# EAGLE library part POLOLU-2134 (library POLOLU-2134)
Stepper motor controler; IC: DRV8834; 2A; Uin mot: 2.5÷10.8V. Check prices <https://pricing.snapeda.com/parts/POLOLU-2134/Pololu/view-part?ref=eda>
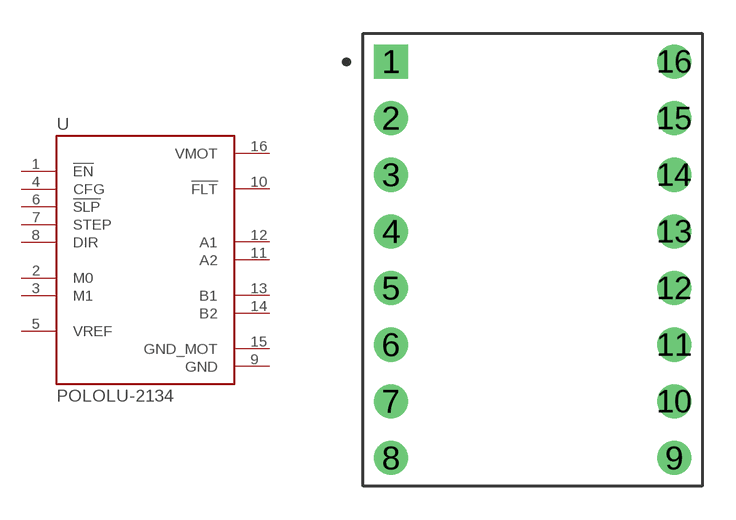
[diagram p0: symbol with the pads of MODULE_POLOLU-2134; footprint MODULE_POLOLU-2134]

Designator prefix U

## POLOLU-2134 (Availability: Not in stock; Description: Stepper motor controler; IC: DRV8834; 2A; Uin mot: 2.5÷10.8V; MF: Pololu; MP: POLOLU-2134; Package: None; Price: None)  [MODULE_POLOLU-2134]
1  !EN  in
2  M0  in
3  M1  in
4  CFG  in
5  VREF  in
6  !SLP  in
7  STEP  in
8  DIR  in
9  GND  pwr
10  !FLT  out
11  A2  out
12  A1  out
13  B1  out
14  B2  out
15  GND_MOT  pwr
16  VMOT  pwr

## Footprint MODULE_POLOLU-2134 (pad centres in mm)
drill 1.02 square: 1 -6.35,8.89
drill 1.02: 2 -6.35,6.35; 3 -6.35,3.81; 4 -6.35,1.27; 5 -6.35,-1.27; 6 -6.35,-3.81; 7 -6.35,-6.35; 8 -6.35,-8.89; 9 6.35,-8.89; 10 6.35,-6.35; 11 6.35,-3.81; 12 6.35,-1.27; 13 6.35,1.27; 14 6.35,3.81; 15 6.35,6.35; 16 6.35,8.89